# Altium integrated library Main_Parts_Library.IntLib: 4 symbols
Pins are listed as number, name and electrical type; pins without a type are passive.

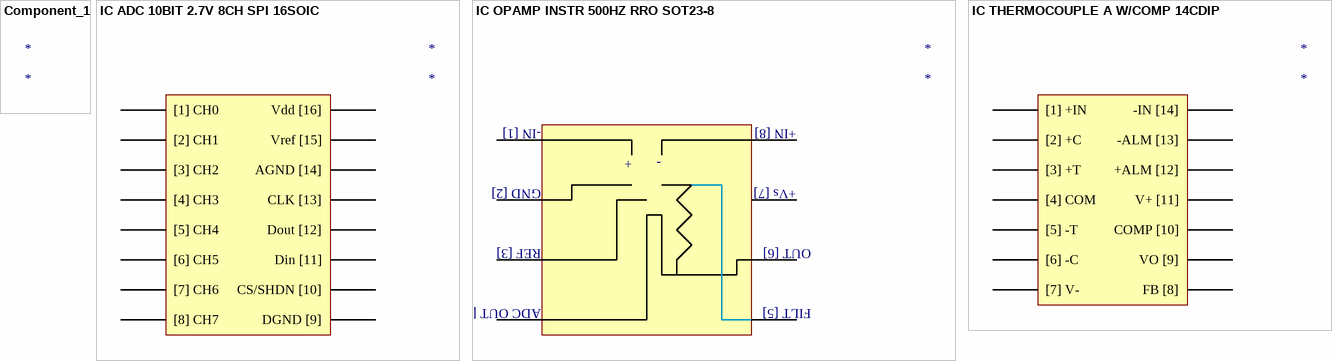
[diagram p0: symbols Component_1 to IC THERMOCOUPLE A W/COMP 14CDIP]

## Component_1
designator *

## IC ADC 10BIT 2.7V 8CH SPI 16SOIC
designator *
footprint IC ADC 10BIT 2.7V 8CH SPI 16SOIC (MCP3008T-I/SLCT-ND)
pins: 1 [1] CH0, 2 [2] CH1, 3 [3] CH2, 4 [4] CH3, 5 [5] CH4, 6 [6] CH5, 7 [7] CH6, 8 [8] CH7, 9 DGND [9], 10 CS/SHDN [10], 11 Din [11], 12 Dout [12], 13 CLK [13], 14 AGND [14], 15 Vref [15], 16 Vdd [16]

## IC OPAMP INSTR 500HZ RRO SOT23-8
designator *
footprint IC OPAMP INSTR 500HZ RRO SOT23-8
pins: 1, 2, 3, 4, 5, 6, 7, 8
text: -IN [1]; +IN [8]; -       +; GND [2]; +Vs [7]; REF [3]; OUT [6]; ADC OUT [4]; FILT [5]

## IC THERMOCOUPLE A W/COMP 14CDIP
designator *
footprint IC THERMOCOUPLE A W/COMP 14CDIP (IC THERMOCOUPLE)
pins: 1 [1] +IN, 2 [2] +C, 3 [3] +T, 4 [4] COM, 5 [5] -T, 6 [6] -C, 7 [7] V-, 8 FB [8], 9 VO [9], 10 COMP [10], 11 V+ [11], 12 +ALM [12], 13 -ALM [13], 14 -IN [14]